# EAGLE library part TLP701 (library 04_IC)
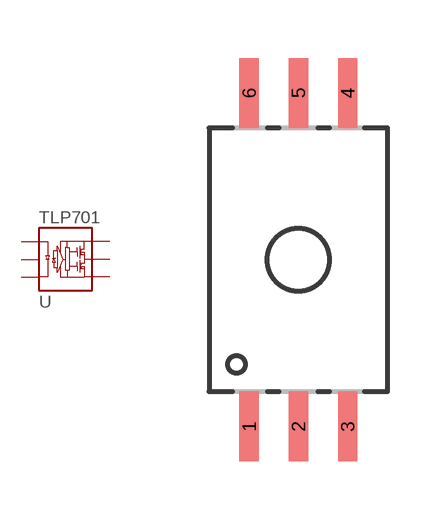
[diagram p4: symbol with the pads of 11-5J1; footprint 11-5J1]

Designator prefix -

## TLP701  [11-5J1]
1  LED+
2  NC1  nc
3  LED-
4  GND
5  OUT  out
6  VCC

## Footprint 11-5J1 (pad centres in mm)
smd 0.5 x 1.8: 1 -1.27,-4.3; 2 0,-4.3; 3 1.27,-4.3; 4 1.27,4.3; 5 0,4.3; 6 -1.27,4.3